# Altium schematic symbol library 2020-09-22_00-43-52.SchLib: 2 symbols
Pins are listed as number, name and electrical type; pins without a type are passive.

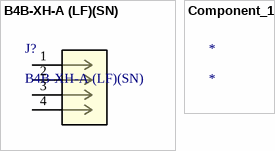
[diagram p0: symbols B4B-XH-A (LF)(SN) to Component_1]

## B4B-XH-A (LF)(SN)
designator J?
No Description Available; Vendor: JST; Built_By: EMA_Cory; SourceLibrary: JST_2020-02-03; Datasheet: http://www.jst-mfg.com/product/pdf/eng/eXH.pdf; Manufacturer_Part_Number: B4B-XH-A (LF)(SN); Copyright: Copyright (C) 2018 Accelerated Designs. All rights reserved; RefDes: RefDes; Type: DEV
footprint CONN_B4B-XH-A (LF)(SN)_JST
pins: 1, 2, 3, 4

## Component_1
designator *